# EAGLE library part RECT_2X12A (library dsantoro-conn)
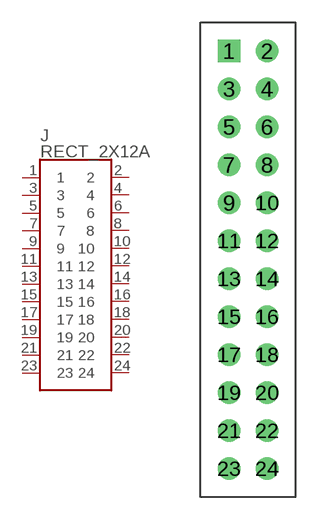
[diagram p8: symbol with the pads of RECT_2X12_0.1; footprint RECT_2X12_0.1]

Designator prefix J

## RECT_2X12A0.1_SPACING  [RECT_2X12_0.1]
1  1
2  2
3  3
4  4
5  5
6  6
7  7
8  8
9  9
10  10
11  11
12  12
13  13
14  14
15  15
16  16
17  17
18  18
19  19
20  20
21  21
22  22
23  23
24  24

## Footprint RECT_2X12_0.1 (pad centres in mm)
drill 1.02 square: 1 0,0
drill 1.02: 2 2.54,0; 3 0,-2.54; 4 2.54,-2.54; 5 0,-5.08; 6 2.54,-5.08; 7 0,-7.62; 8 2.54,-7.62; 9 0,-10.16; 10 2.54,-10.16; 11 0,-12.7; 12 2.54,-12.7; 13 0,-15.24; 14 2.54,-15.24; 15 0,-17.78; 16 2.54,-17.78; 17 0,-20.32; 18 2.54,-20.32; 19 0,-22.86; 20 2.54,-22.86; 21 0,-25.4; 22 2.54,-25.4; 23 0,-27.94; 24 2.54,-27.94